# Altium schematic symbol library BAS70-04-7-F.SchLib: 1 symbol
Pins are listed as number, name and electrical type; pins without a type are passive.

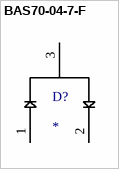
[diagram p0: symbol BAS70-04-7-F]

## BAS70-04-7-F
designator D?
Diode Array 1 Pair Series Connection Schottky 70V 70mA (DC) Surface Mount TO-236-3, SC-59, SOT-23-3; MP: BAS70-04-7-F; MF: Diodes Inc.; Package: SOT-23 Diodes Inc.; Value: *; Mouser-Purchase-URL: https://snapeda.com/shop?store=Mouser&id=46815; SnapEDA_Link: https://www.snapeda.com/parts/BAS70-04-7-F/Diodes%20Inc./view-part/46815/?ref=snap; Availability: Good; Price: None; DigiKey-Purchase-URL: https://snapeda.com/shop?store=DigiKey&id=46815
footprint SOT23
pins: 1, 2, 3